# Altium footprint library AMPLA7050S-100MT.PcbLib: 1 footprints
Each footprint in its own frame and in the unit in brackets; x right, y up, seen from the top. Pads: shape width x height; smd on the part's side, far side on the other; paste and mask are expansions set on the pad; w line width, h text height; cw(c..) or ccw(c..) is an arc to the next point about the centre after c.
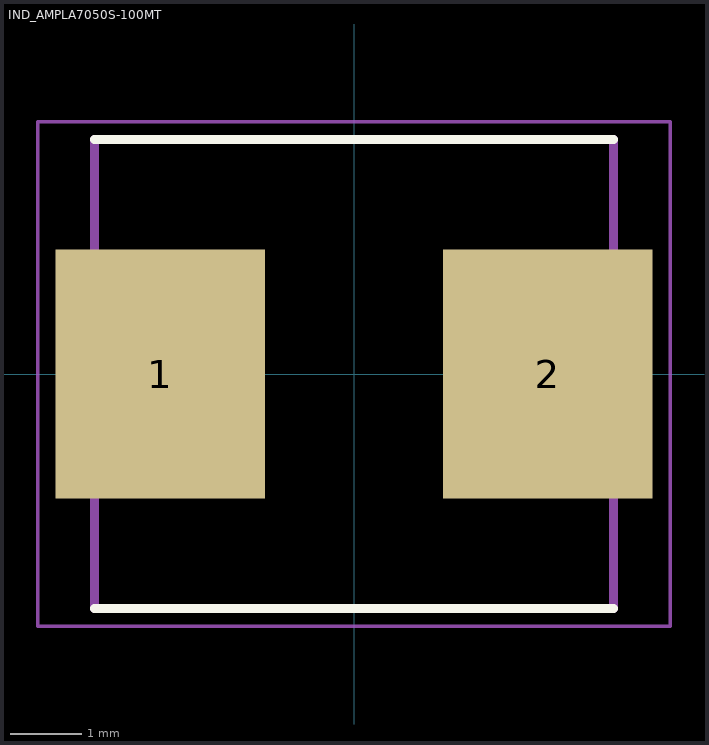
[diagram p0: the footprint, top view; thin cyan lines are the x and y axes]

## IND_AMPLA7050S-100MT [mm]
pads (2):
  rect 2.95x3.5 smd: 1(-2.725,0) 2(2.725,0)
Top Overlay:
  lines w0.127: -3.65,-3.3 3.65,-3.3 ; -3.65,3.3 3.65,3.3
Mechanical 13:
  lines w0.127: -3.65,-3.3 3.65,-3.3 3.65,3.3 -3.65,3.3 -3.65,-3.3
Mechanical 15:
  lines w0.05: -4.45,-3.55 4.45,-3.55 4.45,3.55 -4.45,3.55 -4.45,-3.55
3D body "step_temp.STEP": height 4.8, standoff -0.07, extent -3.72,-3.3 3.72,3.3